# Altium schematic symbol library USBs.SchLib: 22 symbols
Pins are listed as number, name and electrical type; pins without a type are passive.

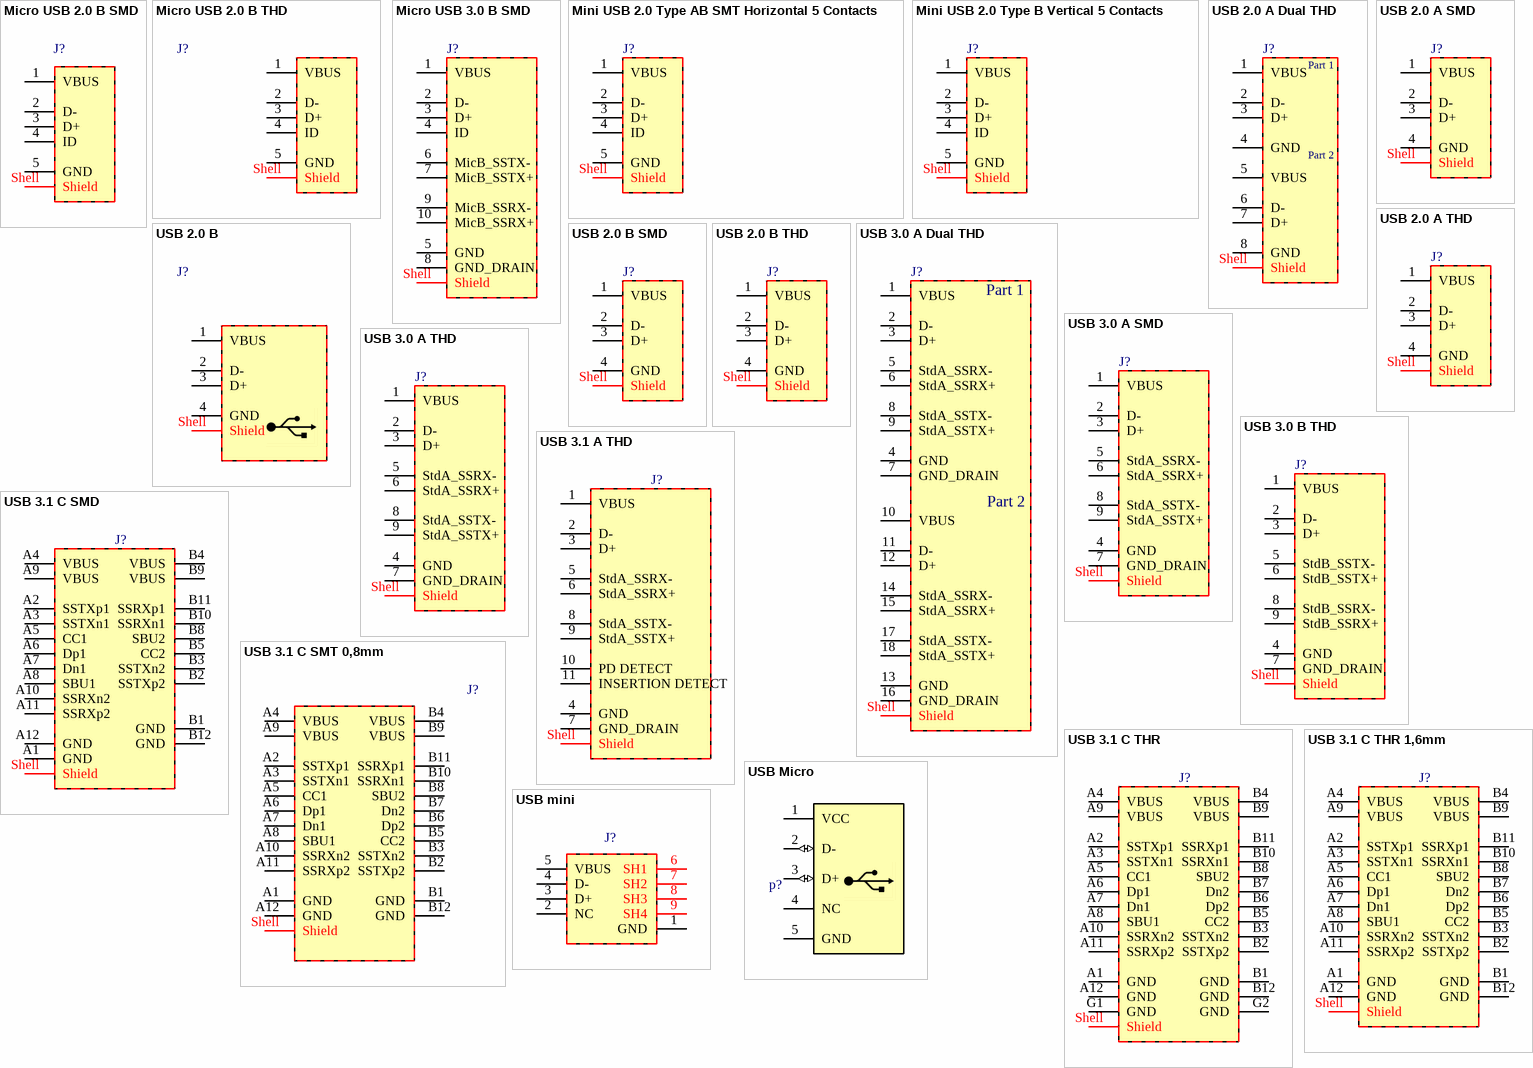
[diagram p0: symbols Micro USB 2.0 B SMD to USB mini]

## Micro USB 2.0 B SMD
designator J?
Micro USB 2.0 Type B Receptacle WR-COM, Horizontal, SMT, with Pads and Pegs; DatasheetVersion: 2022
pins: 1 VBUS, 2 D-, 3 D+, 4 ID, 5 GND, Shell Shield

## Micro USB 2.0 B THD
designator J?
Micro USB 2.0 Type AB Receptacle WR-COM, Vertical, THT; DatasheetVersion: 2022
pins: 1 VBUS, 2 D-, 3 D+, 4 ID, 5 GND, Shell Shield

## Micro USB 3.0 B SMD
designator J?
Micro USB 3.0 Type B Receptacle WR-COM, Horizontal, SMT, with Pads; DatasheetVersion: 2022
pins: 1 VBUS, 2 D-, 3 D+, 4 ID, 5 GND, 6 MicB_SSTX-, 7 MicB_SSTX+, 8 GND_DRAIN, 9 MicB_SSRX-, 10 MicB_SSRX+, Shell Shield

## Mini USB 2.0 Type AB SMT Horizontal 5 Contacts
designator J?
Mini USB 2.0 Type AB Receptacle WR-COM, Horizontal, SMT, with Pads; DatasheetVersion: 2022
pins: 1 VBUS, 2 D-, 3 D+, 4 ID, 5 GND, Shell Shield

## Mini USB 2.0 Type B Vertical 5 Contacts
designator J?
Mini USB 2.0 Type B Receptacle WR-COM, Vertical, THT; DatasheetVersion: 2022
pins: 1 VBUS, 2 D-, 3 D+, 4 ID, 5 GND, Shell Shield

## USB 2.0 A Dual THD
designator J?
USB 2.0 A Dual THD; DatasheetVersion: 2022
pins: 1 VBUS, 2 D-, 3 D+, 4 GND, 5 VBUS, 6 D-, 7 D+, 8 GND, Shell Shield
text: Part 1; Part 2

## USB 2.0 A SMD
designator J?
USB 2.0 A SMD; DatasheetVersion: 2022
pins: 1 VBUS, 2 D-, 3 D+, 4 GND, Shell Shield

## USB 2.0 A THD
designator J?
USB 2.0 A THD; DatasheetVersion: 2022
pins: 1 VBUS, 2 D-, 3 D+, 4 GND, Shell Shield

## USB 2.0 B
designator J?
USB 2.0 B; DatasheetVersion: 2022
pins: 1 VBUS (power), 2 D-, 3 D+, 4 GND (power), Shell Shield

## USB 2.0 B SMD
designator J?
USB 2.0 B SMD; DatasheetVersion: 2022
pins: 1 VBUS, 2 D-, 3 D+, 4 GND, Shell Shield

## USB 2.0 B THD
designator J?
USB 2.0 B THD; DatasheetVersion: 2022
pins: 1 VBUS, 2 D-, 3 D+, 4 GND, Shell Shield

## USB 3.0 A Dual THD
designator J?
USB 3.0 A Dual THD; DatasheetVersion: 2022
pins: 1 VBUS, 2 D-, 3 D+, 4 GND, 5 StdA_SSRX-, 6 StdA_SSRX+, 7 GND_DRAIN, 8 StdA_SSTX-, 9 StdA_SSTX+, 10 VBUS, 11 D-, 12 D+, 13 GND, 14 StdA_SSRX-, 15 StdA_SSRX+, 16 GND_DRAIN, 17 StdA_SSTX-, 18 StdA_SSTX+, Shell Shield
text: Part 1; Part 2

## USB 3.0 A SMD
designator J?
USB 3.0 A SMD; DatasheetVersion: 2022
pins: 1 VBUS, 2 D-, 3 D+, 4 GND, 5 StdA_SSRX-, 6 StdA_SSRX+, 7 GND_DRAIN, 8 StdA_SSTX-, 9 StdA_SSTX+, Shell Shield

## USB 3.0 A THD
designator J?
USB 3.0 A THD; DatasheetVersion: 2022
pins: 1 VBUS, 2 D-, 3 D+, 4 GND, 5 StdA_SSRX-, 6 StdA_SSRX+, 7 GND_DRAIN, 8 StdA_SSTX-, 9 StdA_SSTX+, Shell Shield

## USB 3.0 B THD
designator J?
USB 3.0 B THD; DatasheetVersion: 2022
pins: 1 VBUS, 2 D-, 3 D+, 4 GND, 5 StdB_SSTX-, 6 StdB_SSTX+, 7 GND_DRAIN, 8 StdB_SSRX-, 9 StdB_SSRX+, Shell Shield

## USB 3.1 A THD
designator J?
USB 3.1 A THD; DatasheetVersion: 2022
pins: 1 VBUS, 2 D-, 3 D+, 4 GND, 5 StdA_SSRX-, 6 StdA_SSRX+, 7 GND_DRAIN, 8 StdA_SSTX-, 9 StdA_SSTX+, 10 PD DETECT, 11 INSERTION DETECT, Shell Shield

## USB 3.1 C SMD
designator J?
USB 3.1 C SMD; DatasheetVersion: 2022
pins: A1 GND, A2 SSTXp1, A3 SSTXn1, A4 VBUS, A5 CC1, A6 Dp1, A7 Dn1, A8 SBU1, A9 VBUS, A10 SSRXn2, A11 SSRXp2, A12 GND, B1 GND, B2 SSTXp2, B3 SSTXn2, B4 VBUS, B5 CC2, B8 SBU2, B9 VBUS, B10 SSRXn1, B11 SSRXp1, B12 GND, Shell Shield

## USB 3.1 C SMT 0,8mm
designator J?
USB 3.1 C SMT 0,8mm; DatasheetVersion: 2022
pins: A1 GND, A2 SSTXp1, A3 SSTXn1, A4 VBUS, A5 CC1, A6 Dp1, A7 Dn1, A8 SBU1, A9 VBUS, A10 SSRXn2, A11 SSRXp2, A12 GND, B1 GND, B2 SSTXp2, B3 SSTXn2, B4 VBUS, B5 CC2, B6 Dp2, B7 Dn2, B8 SBU2, B9 VBUS, B10 SSRXn1, B11 SSRXp1, B12 GND, Shell Shield

## USB 3.1 C THR
designator J?
USB 3.1 C THR; DatasheetVersion: 2022
pins: A1 GND, A2 SSTXp1, A3 SSTXn1, A4 VBUS, A5 CC1, A6 Dp1, A7 Dn1, A8 SBU1, A9 VBUS, A10 SSRXn2, A11 SSRXp2, A12 GND, B1 GND, B2 SSTXp2, B3 SSTXn2, B4 VBUS, B5 CC2, B6 Dp2, B7 Dn2, B8 SBU2, B9 VBUS, B10 SSRXn1, B11 SSRXp1, B12 GND, G1 GND, G2 GND, Shell Shield

## USB 3.1 C THR 1,6mm
designator J?
USB 3.1 C THR 1,6mm
pins: A1 GND, A2 SSTXp1, A3 SSTXn1, A4 VBUS, A5 CC1, A6 Dp1, A7 Dn1, A8 SBU1, A9 VBUS, A10 SSRXn2, A11 SSRXp2, A12 GND, B1 GND, B2 SSTXp2, B3 SSTXn2, B4 VBUS, B5 CC2, B6 Dp2, B7 Dn2, B8 SBU2, B9 VBUS, B10 SSRXn1, B11 SSRXp1, B12 GND, Shell Shield

## USB Micro
designator p?, comment USB Connector  (value not drawn)
USB Connector MICRO-B Type; Max Current: 1600mA; ComponentLink1Description: Datasheet; ComponentLink2Description: Reference; Update: 1395-11-17
pins: 1 VCC (power), 2 D- (io), 3 D+ (io), 4 NC, 5 GND (power)
3 alternate drawings of the same symbol

## USB mini
designator J?
mini USB Connector; DatasheetVersion: 2022
pins: 1 GND, 2 NC, 3 D+, 4 D-, 5 VBUS, 6 SH1, 7 SH2, 8 SH3, 9 SH4